# EAGLE library part SERIAL_TO_USB_ARDUINO_MINI (library T-Stick)
Serial to USB adapter for the Arduino mini 04 used in T-Sticks
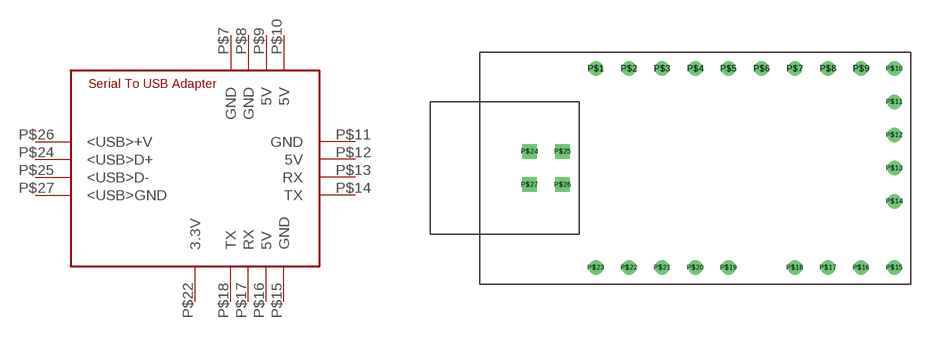
[diagram p1: symbol with the pads of SERIAL_TO_USB_ARDUINO; footprint SERIAL_TO_USB_ARDUINO]

Designator prefix -

## SERIAL_TO_USB_ARDUINO_MINI  [SERIAL_TO_USB_ARDUINO]
P$7  GND
P$8  GND
P$9  5V
P$10  5V
P$11  GND
P$12  5V
P$13  RX
P$14  TX
P$15  GND
P$16  5V
P$17  RX
P$18  TX
P$22  3.3V
P$24  <USB>D+
P$25  <USB>D-
P$26  <USB>+V
P$27  <USB>GND

## Footprint SERIAL_TO_USB_ARDUINO (pad centres in mm)
drill 0.6: P$1 12.7,5.08; P$2 15.24,5.08; P$3 17.78,5.08; P$4 20.32,5.08; P$5 22.86,5.08; P$6 25.4,5.08; P$7 27.94,5.08; P$8 30.48,5.08; P$9 33.02,5.08; P$10 35.56,5.08; P$11 35.56,2.54; P$12 35.56,0; P$13 35.56,-2.54; P$14 35.56,-5.08; P$15 35.56,-10.16; P$16 33.02,-10.16; P$17 30.48,-10.16; P$18 27.94,-10.16; P$19 22.86,-10.16; P$20 20.32,-10.16; P$21 17.78,-10.16; P$22 15.24,-10.16; P$23 12.7,-10.16
drill 0.6 square: P$24 7.62,-1.27; P$25 10.16,-1.27; P$26 10.16,-3.81; P$27 7.62,-3.81